# Altium schematic symbol library LTC2954CTS8-2.SCHLIB: 1 symbol
Pins are listed as number, name and electrical type; pins without a type are passive.

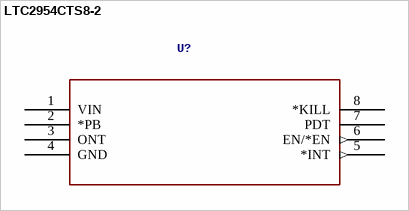
[diagram p0: symbol LTC2954CTS8-2]

## LTC2954CTS8-2
designator U?
Description: LTC2954 - Push Button On/Off Controller with %C2%B5P Interrupt; MF: Linear Technology; MP: LTC2954CTS8-2; Price: None; Package: None; Availability: Unavailable
footprint TSOT-23_TS8
pins: 1 VIN, 2 *PB, 3 ONT, 4 GND (power), 5 *INT (out), 6 EN/*EN (out), 7 PDT, 8 *KILL